# Altium schematic symbol library Y_FC-12M.SchLib: 1 symbol
Pins are listed as number, name and electrical type; pins without a type are passive.

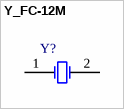
[diagram p0: symbol Y_FC-12M]

## Y_FC-12M
designator Y?
pins: 1 OSC1, 2 OSC2